# EAGLE library part USB_MINI_8P_F (library Rebel)
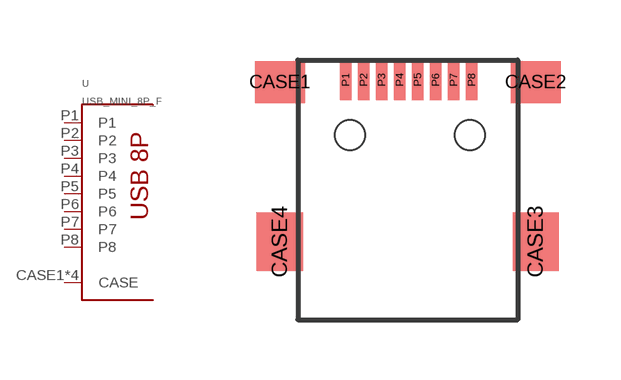
[diagram p37: symbol with the pads of USB_MINI_8P_F; footprint USB_MINI_8P_F]

Designator prefix -

## USB_MINI_8P_F  [USB_MINI_8P_F]
CASE1  CASE
CASE2  CASE
CASE3  CASE
CASE4  CASE
P1  P1
P2  P2
P3  P3
P4  P4
P5  P5
P6  P6
P7  P7
P8  P8

## Footprint USB_MINI_8P_F (pad centres in mm)
smd 1.25 x 1.05: CASE1 -3.225,-0.05; CASE2 3.175,-0.05
smd 1.15 x 1.45: CASE3 3.175,-4.05; CASE4 -3.225,-4.05
smd 0.28 x 1: P1 -1.575,0; P2 -1.125,0; P3 -0.675,0; P4 -0.225,0; P5 0.225,0; P6 0.675,0; P7 1.125,0; P8 1.575,0
hole 0.75 at -1.475,-1.38
hole 0.75 at 1.525,-1.38